# EAGLE library part WANNENSTECKER-14 (library iceberg20)
Stiftleiste, Stift, 14-polig, 2,54 mm Datenblatt: Link <https://www.buerklin.com/medias/sys_master/root/hbe/h7d/9017036603422/TDS-HARTING-Harting-EN-1571996484955.pdf> Zeichnung: Link <https://www.buerklin.com/medias/sys_master/root/had/hd5/8866195439646/8866195439646.pdf>
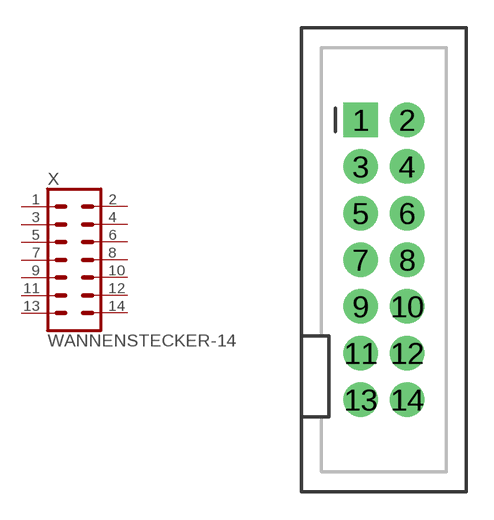
[diagram p14: symbol with the pads of 2X7; footprint 2X7]

Designator prefix X

## WANNENSTECKER-14 (BESTAND: 0; HERSTELLER: Harting; HERSTELLER-NR: 0918 514 6324; SUPPLIER: Bürklin; SUPPLIER-NR: 53F4210)  [2X7]
1  1  pas
2  2  pas
3  3  pas
4  4  pas
5  5  pas
6  6  pas
7  7  pas
8  8  pas
9  9  pas
10  10  pas
11  11  pas
12  12  pas
13  13  pas
14  14  pas

## Footprint 2X7 (pad centres in mm)
Plated Through Hole - 2x3 Shrouded Header Specifications: Pin count:6 Pin pitch:0.1" Datasheet referenced for footprint <https://www.sparkfun.com/datasheets/Prototyping/Shrouded-10pin.pdf> Example device(s): CONN_03x2
drill 1 pad 1.88 square: 1 -1.27,2.54
drill 1 pad 1.88: 2 1.27,2.54; 3 -1.27,0; 4 1.27,0; 5 -1.27,-2.54; 6 1.27,-2.54; 7 -1.27,-5.08; 8 1.27,-5.08; 9 -1.27,-7.62; 10 1.27,-7.62; 11 -1.27,-10.16; 12 1.27,-10.16; 13 -1.27,-12.7; 14 1.27,-12.7